# Altium schematic symbol library LM2676S-ADJ.SchLib: 1 symbol
Pins are listed as number, name and electrical type; pins without a type are passive.

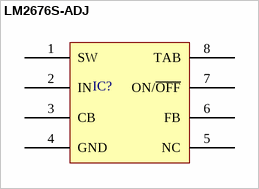
[diagram p0: symbol LM2676S-ADJ]

## LM2676S-ADJ
designator IC?
The LM2676 series of regulators are monolithic / integrated circuits which provide all of the active / functions for a step-down (buck) switching regulator / capable of driving up to 3-A loads with excellent line / and load regulation characteristics.; Datasheet: https://www.ti.com/lit/ds/symlink/lm2676.pdf?HQS=dis-dk-null-digikeymode-dsf-pf-null-wwe&ts=1689865044741&ref_url=https%253A%252F%252Fwww.ti.com%252Fgeneral%252Fdocs%252Fsuppproductinfo.tsp%253FdistId%253D10%2526gotoUrl%253Dhttps%253A%252F%252Fwww.ti.com%252Flit%252Fgpn%252Flm2676
footprint DPAK127P1435X464-8N (D2-PAK, 8-Pads, Body 7.55x8.57mm (max), IPC Medium Density)
pins: 1 SW, 2 IN, 3 CB, 4 GND, 5 NC, 6 FB, 7 ON/~{OFF}, 8 TAB